# Altium footprint library USB-Type-C-16Pin.PcbLib: 1 footprints
Each footprint in its own frame and in the unit in brackets; x right, y up, seen from the top. Pads: shape width x height; smd on the part's side, far side on the other; paste and mask are expansions set on the pad; w line width, h text height; cw(c..) or ccw(c..) is an arc to the next point about the centre after c.
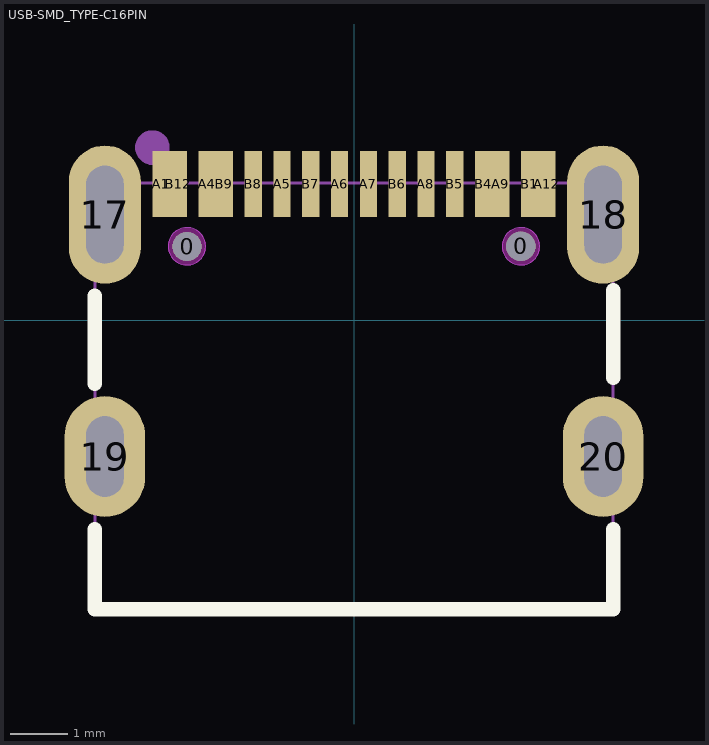
[diagram p0: the footprint, top view; thin cyan lines are the x and y axes]

## USB-SMD_TYPE-C16PIN [mm]
pads (22):
  round 0.508 hole 0.508: 0(-2.9,1.281) 0(2.898,1.285)
  oval 1.25x2.4 hole 0.65 slot 1.7 at 90 deg paste+0 mask+0.05: 17(-4.325,1.835) 18(4.325,1.835)
  oval 1.4x2.1 hole 0.65 slot 1.4 at 90 deg paste+0 mask+0.05: 19(-4.325,-2.365) 20(4.325,-2.365)
  rect 0.3x1.15 smd paste-100 mask+0.05: A1(-3.35,2.365) A4(-2.55,2.365) A5(-1.25,2.365) A6(-0.25,2.365) A7(0.25,2.365) A8(1.25,2.365) A9(2.55,2.365) A12(3.35,2.365) B1(3.05,2.365) B4(2.25,2.365) B5(1.75,2.365) B6(0.75,2.365) B7(-0.75,2.365) B8(-1.75,2.365) B9(-2.25,2.365) B12(-3.05,2.365)
Top Overlay:
  lines w0.254: -4.5,-3.63 -4.5,-5.015 4.5,-5.015 4.5,-3.63 ; -4.5,-1.101 -4.5,0.422 ; 4.5,-1 4.5,0.523
Top Paste:
  drawing of 16 lines, arcs and shapes, not listed
Keep-Out Layer:
  board cut-out: 3.225,1.285 3.225,1.35 3.175,1.469 3.084,1.561 2.965,1.61 2.835,1.61 2.716,1.561 2.624,1.469 2.575,1.35 2.575,1.285 2.575,1.221 2.624,1.101 2.716,1.01 2.835,0.96 2.965,0.96 3.084,1.01 3.175,1.101 3.225,1.221 3.225,1.285
  board cut-out: -2.575,1.285 -2.575,1.35 -2.624,1.469 -2.716,1.561 -2.835,1.61 -2.965,1.61 -3.084,1.561 -3.175,1.469 -3.225,1.35 -3.225,1.285 -3.225,1.221 -3.175,1.101 -3.084,1.01 -2.965,0.96 -2.835,0.96 -2.716,1.01 -2.624,1.101 -2.575,1.221 -2.575,1.285
Mechanical 1:
  circle w0.005: c2.9,1.285 r0.325
  circle w0.005: c-2.9,1.285 r0.325
Mechanical 6:
  circle w0.225: c2.9,1.285 r0.113
  circle w0.225: c-2.9,1.285 r0.113
  circle w0.3: c-3.5,3 r0.15
Mechanical 15:
  drawing of 33 lines, arcs and shapes, not listed
Multi-Layer:
  pour cut-out: 3.225,1.285 3.225,1.35 3.175,1.469 3.084,1.561 2.965,1.61 2.835,1.61 2.716,1.561 2.624,1.469 2.575,1.35 2.575,1.285 2.575,1.221 2.624,1.101 2.716,1.01 2.835,0.96 2.965,0.96 3.084,1.01 3.175,1.101 3.225,1.221 3.225,1.285
  pour cut-out: -2.575,1.285 -2.575,1.35 -2.624,1.469 -2.716,1.561 -2.835,1.61 -2.965,1.61 -3.084,1.561 -3.175,1.469 -3.225,1.35 -3.225,1.285 -3.225,1.221 -3.175,1.101 -3.084,1.01 -2.965,0.96 -2.835,0.96 -2.716,1.01 -2.624,1.101 -2.575,1.221 -2.575,1.285
3D body "USB-TYPE-C.SLDPRT": height 3.34, standoff -0.82, extent -4.51,-4.99 4.43,2.59